# Altium schematic symbol library Ledrock.SchLib: 13 symbols
Pins are listed as number, name and electrical type; pins without a type are passive.

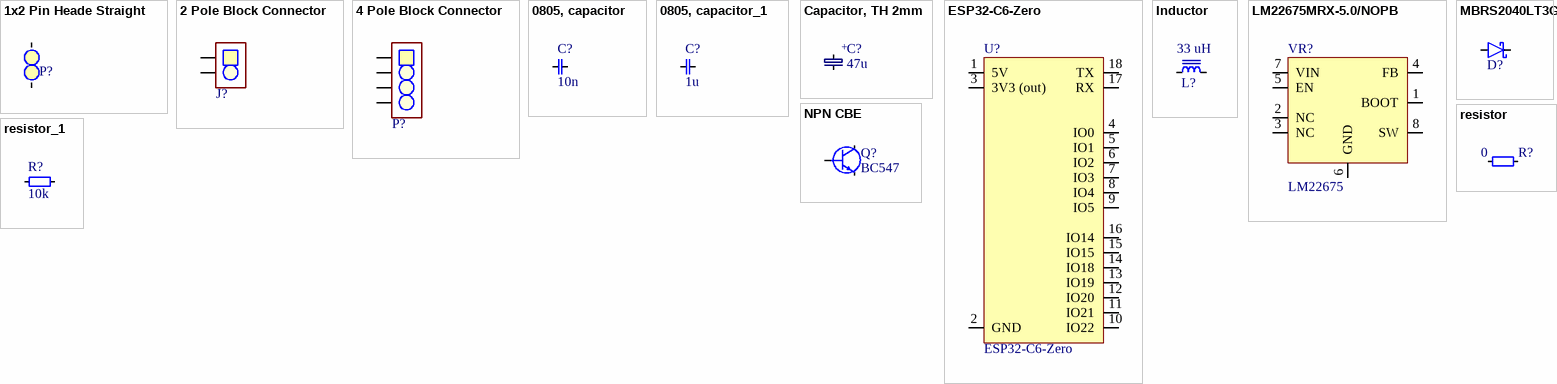
[diagram p0: symbols 1x2 Pin Heade Straight to resistor_1]

## 1x2 Pin Heade Straight
designator P?  (value not drawn)
2.54 mm, TH; Value: 1x2 Pin Header
footprint padtwo_L (Pad Diameter 2 mm, Hole  0.3 mm, Pitch 2.54 mm)
footprint SMD_PAD (1x2 2.54 mm pitch)
footprint 1x2 Bent (Diameter 2mm, Hole 1mm)
pins: 1, 2

## 2 Pole Block Connector
designator J?  (value not drawn)
footprint 2 Pole Block 2.54 mm TBC05 (TBC05 series by GCT)
pins: 1, 2

## 4 Pole Block Connector
designator P?, comment TBL002A-350-04GY-2GY  (value not drawn)
1~24 Poles, Screwless, 45°, 3.50 Pitch, 24~20 (AWG), Terminal Block Connector; Manufacturer: CUI Devices; Supplier 1: Mouser; Manufacturer Part Number: TBL002A-350-04GY-2GY; RoHS: Yes; Category: Terminal Blocks; Stock 1: 1130; Pricing 1: 1=0,94000, 10=0,45400, 50=0,45400, 100=0,43400, 1000=0,35800, 10000=0,26800 (USD); Supplier Part Number 1: 490-TBL002A3504GY2GY
footprint 4 POLE BLOCK CONNECTOR (CUI Devices TBL002A-350)
footprint 4 Pole Block 2.54mm TBC05
pins: 1, 2, 3, 4

## 0805, capacitor
designator C?  value 10n  (hidden comment: 0805, capacitor)
footprint 0805, cap
pins: 1, 2

## 0805, capacitor_1
designator C?, comment value 1u  (hidden comment: 0805, capacitor)
footprint 0805, cap
pins: 1, 2

## Capacitor, TH 2mm
designator C?  value 47u  (hidden comment: Capacitor, TH 2mm)
Capacitor TH 2mm; Supplier: *; Order number: *
footprint capacitor, TH 2mm (Generic electrolyte)
footprint Cap, SMD, Polar, 5.3x5.3mm (Wurth WCAP-ASLI series)
pins: 1, 2
text: +

## ESP32-C6-Zero
designator U?
Waveshare board with ESP32-C6FH4 MCU
footprint ESP32-C6-Zero
pins: 1 5V, 2 GND, 3 3V3 (out), 4 IO0, 5 IO1, 6 IO2, 7 IO3, 8 IO4, 9 IO5, 10 IO22, 11 IO21, 12 IO20, 13 IO19, 14 IO18, 15 IO15, 16 IO14, 17 RX, 18 TX

## Inductor
designator L?, comment 33 uH
Manufacturer Part Number: SRN8040-330M
footprint 1812, coil
footprint Inductor-SRN8040
pins: 1, 2

## LM22675MRX-5.0/NOPB
designator VR?, comment LM22675
4.5V to 42V, 1A SIMPLE SWITCHER® buck converter with precision enable 8-SO PowerPAD -40 to 125; Manufacturer: Texas Instruments; Manufacturer Part Number: LM22675MRX-5.0/NOPB; Manufacturer Lifecycle Status: ACTIVE; Efficiency: 90%; Min Output Voltage: 5V; Number of Outputs: 1; Output Configuration: Positive; Output Type: Fixed; Quiescent Current: 3.4mA; Switching Frequency: 500kHz; Synchronous Rectifier: No; Supplier: DigiKey; Supplier Part Number: 296-38092-1-ND; RoHS: Compliant; Category: Voltage Regulators - Switching; Stock: 2125; Pricing: 1=4,45, 10=3,378, 25=3,1096, 100=2,8145, 250=2,67376, 500=2,58896, 1000=2,51916 (USD); Contact Plating: Tin; Height: 1.7mm; Lead Free: Lead Free; Length: 4.89mm; Lifecycle Status: Production; Max Supply Voltage: 42V; Max Operating Temperature: 125°C; Max Output current: 1A; Min Input Voltage: 4.5V; Min Operating Temperature: -40°C; Min Supply Voltage: 4.5V; Mounting Technology: Surface Mount; Pins: 8; Operating Supply Voltage: 42V; Output Current: 1A; Output Voltage: 5V; Radiation Hardening: No; Schedule B: 8542390000; Thickness: 1.48mm; Topology: Buck; Width: 3.9mm; ComponentLink1URL: https://sigma.octopart.com:443/104526336/technical_drawing/Texas-Instruments-LM22675MRX-5.0-NOPB.pdf?src-supplier=Texas+Instruments; ComponentLink1Description: https://sigma.octopart.com:443/104526336/technical_drawing/Texas-Instruments-LM22675MRX-5.0-NOPB.pdf?src-supplier=Texas+Instruments; ComponentLink2URL: https://octopart.com:443/opatz8j6/c1?t=iWK7ArRoTM6KqeCSTlbnN1OG6JoRpO_L3GF_ll-8BpIDIk97LOXDM_Jhq1ccS_mUg7GZXuZ0QTLgCEpcy4-n-A9GGS2DlfdSpAe71VbeSB84VOUYj7seC8Me1JaJGGILGZiZx0VZ820pCuUMkMF5Kfj4vKRG4R48ME__co-UMoJ6V0sVJeKPhKnVNc00aYq7nXUaO7WOIMpz28n_VfT9lbiWW8gy5pu8meoN72G9Yh3SHmBDxdpIUMhGPAO2P4CRp2dnTFFNW_ZJnCGrPDCDSG45DhkyPdtjVqXPR93MCue5n5zi9O-V1toA0DH5Zzok3SpEPMd1ClIINirX6zakUhggfiWnB4ksZz6PATo8G6j1B5qdvLq7avxHcWrW24L3gYtmNo0&src-supplier=Texas+Instruments; ComponentLink2Description: https://octopart.com:443/opatz8j6/c1?t=iWK7ArRoTM6KqeCSTlbnN1OG6JoRpO_L3GF_ll-8BpIDIk97LOXDM_Jhq1ccS_mUg7GZXuZ0QTLgCEpcy4-n-A9GGS2DlfdSpAe71VbeSB84VOUYj7seC8Me1JaJGGILGZiZx0VZ820pCuUMkMF5Kfj4vKRG4R48ME__co-UMoJ6V0sVJeKPhKnVNc00aYq7nXUaO7WOIMpz28n_VfT9lbiWW8gy5pu8meoN72G9Yh3SHmBDxdpIUMhGPAO2P4CRp2dnTFFNW_ZJnCGrPDCDSG45DhkyPdtjVqXPR93MCue5n5zi9O-V1toA0DH5Zzok3SpEPMd1ClIINirX6zakUhggfiWnB4ksZz6PATo8G6j1B5qdvLq7avxHcWrW24L3gYtmNo0&src-supplier=Texas+Instruments; ComponentLink3URL: https://datasheet.octopart.com:443/LM22675MRX-5.0-NOPB-Texas-Instruments-datasheet-34142290.pdf?src-supplier=Texas+Instruments; ComponentLink3Description: https://datasheet.octopart.com:443/LM22675MRX-5.0-NOPB-Texas-Instruments-datasheet-34142290.pdf?src-supplier=Texas+Instruments; ComponentLink4URL: https://datasheet.octopart.com:443/LM22675MRX-5.0-NOPB-Texas-Instruments-datasheet-14446427.pdf?src-supplier=Texas+Instruments; ComponentLink4Description: https://datasheet.octopart.com:443/LM22675MRX-5.0-NOPB-Texas-Instruments-datasheet-14446427.pdf?src-supplier=Texas+Instruments; ComponentLink5URL: https://datasheet.octopart.com:443/LM22675MRX-5.0/NOPB-Texas-Instruments-datasheet-12509805.pdf?src-supplier=Texas+Instruments; ComponentLink5Description: https://datasheet.octopart.com:443/LM22675MRX-5.0/NOPB-Texas-Instruments-datasheet-12509805.pdf?src-supplier=Texas+Instruments; ComponentLink6URL: https://sigma.octopart.com:443/49250132/technical_drawing/Texas-Instruments-LM22675MRX-5.0-NOPB.pdf?src-supplier=Texas+Instruments; ComponentLink6Description: https://sigma.octopart.com:443/49250132/technical_drawing/Texas-Instruments-LM22675MRX-5.0-NOPB.pdf?src-supplier=Texas+Instruments; ComponentLink7URL: https://datasheet.octopart.com:443/LM22675MRX-5.0-NOPB-Texas-Instruments-datasheet-81454324.pdf?src-supplier=Newark; ComponentLink7Description: https://datasheet.octopart.com:443/LM22675MRX-5.0-NOPB-Texas-Instruments-datasheet-81454324.pdf?src-supplier=Newark; ComponentLink8URL: https://datasheet.octopart.com:443/LM22675MRX-5.0-NOPB-Texas-Instruments-datasheet-165803959.pdf?src-supplier=LCSC; ComponentLink8Description: https://datasheet.octopart.com:443/LM22675MRX-5.0-NOPB-Texas-Instruments-datasheet-165803959.pdf?src-supplier=LCSC; ComponentLink9URL: https://datasheet.octopart.com:443/LM22675MRX-5.0-NOPB-Texas-Instruments-datasheet-159611943.pdf?src-supplier=LCSC; ComponentLink9Description: https://datasheet.octopart.com:443/LM22675MRX-5.0-NOPB-Texas-Instruments-datasheet-159611943.pdf?src-supplier=LCSC; ComponentLink10URL: https://datasheet.octopart.com:443/LM22675MRX-5.0-NOPB-Texas-Instruments-datasheet-141944471.pdf?src-supplier=Arrow.cn; ComponentLink10Description: https://datasheet.octopart.com:443/LM22675MRX-5.0-NOPB-Texas-Instruments-datasheet-141944471.pdf?src-supplier=Arrow.cn; ComponentLink11URL: https://datasheet.octopart.com:443/LM22675MRX-5.0-NOPB-Texas-Instruments-datasheet-61210456.pdf?src-supplier=Future+Electronics; ComponentLink11Description: https://datasheet.octopart.com:443/LM22675MRX-5.0-NOPB-Texas-Instruments-datasheet-61210456.pdf?src-supplier=Future+Electronics; ComponentLink12URL: https://datasheet.octopart.com:443/LM22675MRX-5.0-NOPB-Texas-Instruments-datasheet-137316104.pdf?src-supplier=Future+Electronics; ComponentLink12Description: https://datasheet.octopart.com:443/LM22675MRX-5.0-NOPB-Texas-Instruments-datasheet-137316104.pdf?src-supplier=Future+Electronics; ComponentLink13URL: http://sigma.octopart.com:80/reach_statement/Texas-Instruments-company-64.pdf?src-supplier=Compliance+Statements; ComponentLink13Description: http://sigma.octopart.com:80/reach_statement/Texas-Instruments-company-64.pdf?src-supplier=Compliance+Statements; ComponentLink14URL: http://sigma.octopart.com:80/conflict_mineral_statement/Texas-Instruments-company-63.pdf?src-supplier=Compliance+Statements; ComponentLink14Description: http://sigma.octopart.com:80/conflict_mineral_statement/Texas-Instruments-company-63.pdf?src-supplier=Compliance+Statements
footprint PowerPAD_Soic8 (SOIC 8 PowerPAD)
pins: 1 BOOT, 2 NC, 3 NC, 4 FB, 5 EN, 6 GND, 7 VIN, 8 SW

## MBRS2040LT3G
designator D?  (value not drawn)
Diode, Schottky Barrier, Vr 40V, If 2A, Pkg Smb, Vf 0.43V, Tj +125DEGC, Cs 70A, Ir 20MA; Manufacturer Part Number: MBRS2040LT3G
footprint CASE_403A
pins: 1 K, 2 A

## NPN CBE
designator Q?, comment BC547
footprint BC547_TO-92_BENT
pins: 1 C, 2 B, 3 E

## resistor
designator R?, comment value 0  (hidden comment: General resistor)
footprint 0603
footprint 0402 res
footprint 0805
footprint TH (Spacing 9mm)
pins: 1, 2

## resistor_1
designator R?, comment value 10k  (hidden comment: General resistor)
footprint 0603
footprint 0402 res
footprint 0805
footprint TH (Spacing 9mm)
pins: 1, 2